# Altium schematic symbol library AP2139AK.Schlib: 1 symbol
Pins are listed as number, name and electrical type; pins without a type are passive.

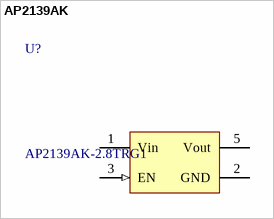
[diagram p0: symbol AP2139AK]

## AP2139AK
designator U?, comment AP2139AK-2.8TRG1
Part Number: AP2139AK-2.8TRG1
pins: 1 Vin (power), 2 GND (power), 3 EN (in), 5 Vout (power)